# Altium schematic symbol library Erico_Ignitor.SCHLIB: 88 symbols (part 2 of 2)
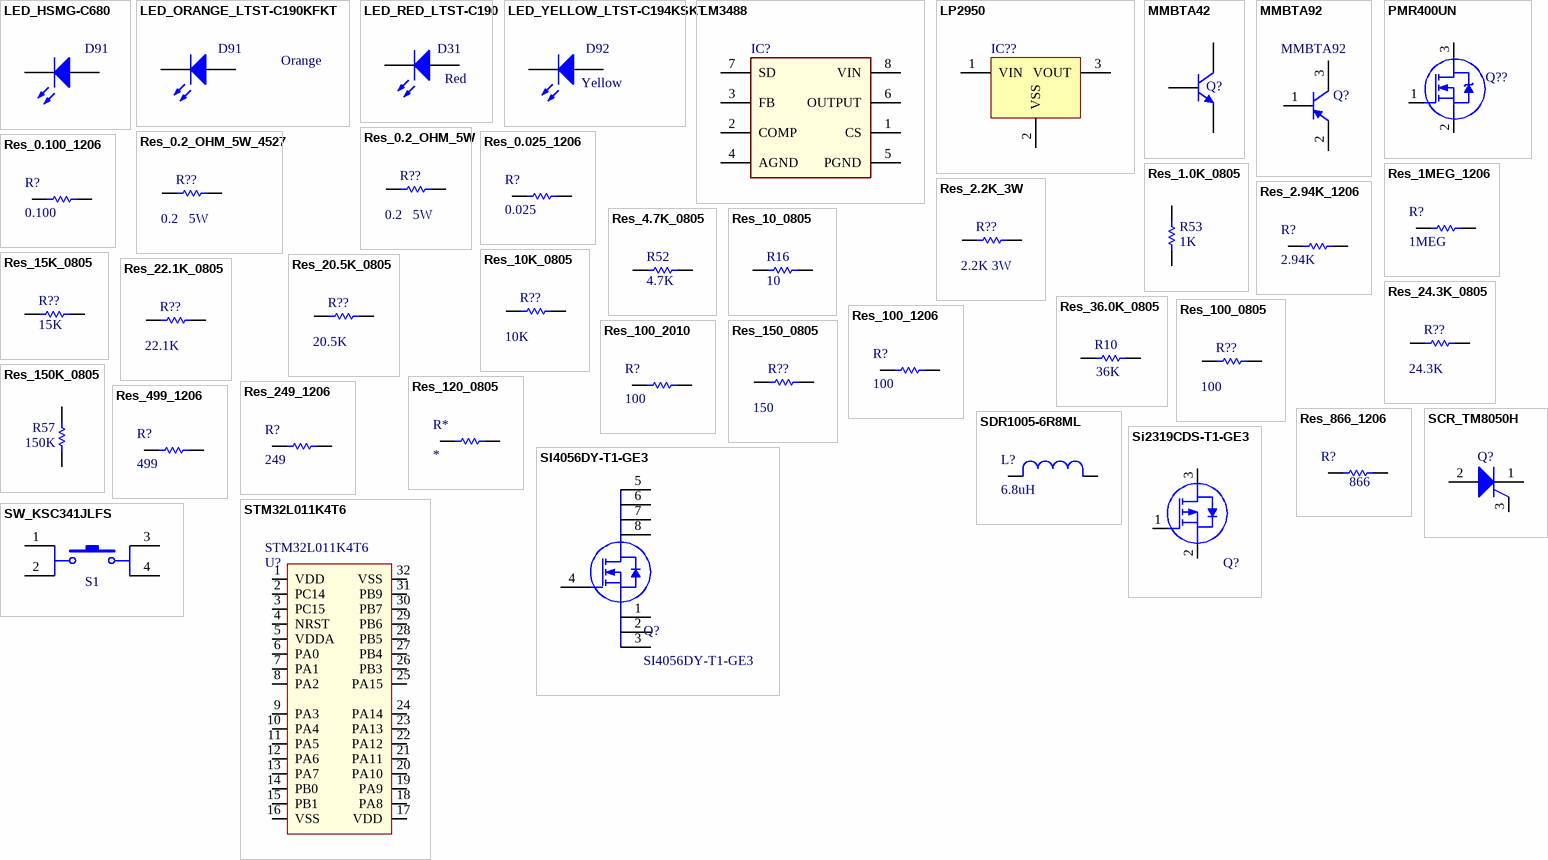
[diagram p3: symbols LED_HSMG-C680 to SW_KSC341JLFS]

## Res_0.2_OHM_5W_4527
designator R??, comment 0.2   5W
Res Metal Strip 4527 0.2 Ohm 1% 5W ±75ppm/°C Molded SMD SMD Embossed Plastic T/R; Manufacturer: Vishay Dale; Manufacturer P/N: WSR5R2000FEA; Resistance: 200mR; Voltage Rating: 1V; Supplier 1: Digi-Key; Supplier Part Number 1: WSRC-.2CT-ND; Case/Package: 4527; Number of Pins: 2; Case Code (Imperial): 4527; Contact Plating: Tin,Silver; Min Operating Temperature: -65°C; Max Operating Temperature: 275°C; Tolerance: 1%; Power Rating: 5W; Voltage Rating (DC): 1V; Package Quantity: 1; Termination: SMD/SMT; Composition: Metal Strip,Metal Element; Temperature Coefficient: 75ppm/°C; Max Power Dissipation: 5W; Features: Moisture Resistant,Automotive AEC-Q200; Length: 0.455inch; Height: 0.1inch; Width: 6.98mm; Radiation Hardening: No; REACH SVHC: No SVHC; ComponentLink1URL: http://www.vishay.com/docs/31059/wsrhigh.pdf?src-supplier=Avnet+Europe; ComponentLink1Description: http://www.vishay.com/docs/31059/wsrhigh.pdf?src-supplier=Avnet+Europe; ComponentLink2URL: http://www.vishay.com/docs/31059/wsrhigh.pdf?src-supplier=Avnet; ComponentLink2Description: http://www.vishay.com/docs/31059/wsrhigh.pdf?src-supplier=Avnet; ComponentLink3URL: http://www.vishay.com/docs/31059/wsrhigh.pdf?src-supplier=Digi-Key; ComponentLink3Description: http://www.vishay.com/docs/31059/wsrhigh.pdf?src-supplier=Digi-Key
footprint RES_WSR5 (Chip Resistor Body 455mils X 275mils)
pins: 1, 2

## Res_0.025_1206
designator R?, comment 0.025
RES 0.025 1206; Manufacturer: Stackpole Electronics; Manufacturer P/N: CSR1206FTR100; Tolerance: 1%; Resistance: 100mR; Max Power Dissipation: 500mW; Temperature Coefficient: 100ppm/°C; Supplier 1: Digi-Key; Supplier Part Number 1: CSR1206FTR100CT-ND; Mount: Surface Mount; Case/Package: 1206; Case Code (Metric): 3216; Case Code (Imperial): 1206; Contact Plating: Matte,Tin; Min Operating Temperature: -55°C; Max Operating Temperature: 155°C; Package Quantity: 1; Composition: Thick Film; Military Standard: Not; Length: 0.12inch; Height: 0.026inch; Width: 0.061inch; Depth: 1.55mm; Radiation Hardening: No; Lead Free: Lead Free; ComponentLink1URL: https://www.verical.com/server-webapp/html/getDatasheet?partID=743581; ComponentLink1Description: https://www.verical.com/server-webapp/html/getDatasheet?partID=743581; Supplier 2: Digi-Key; Supplier Part Number 2: CSR1206FK25L0CT-ND; Power Rating: 500mW
footprint RESC3216N (Chip Resistor, Body 3.2x1.6mm, IPC Nominal)
pins: 1, 2

## Res_0.100_1206
designator R?, comment 0.100
RES 0.100 1206; Manufacturer: Stackpole Electronics; Manufacturer P/N: CSR1206FTR100; Tolerance: 1%; Resistance: 100mR; Max Power Dissipation: 500mW; Temperature Coefficient: 100ppm/°C; Supplier 1: Digi-Key; Supplier Part Number 1: CSR1206FTR100CT-ND; Mount: Surface Mount; Case/Package: 1206; Case Code (Metric): 3216; Case Code (Imperial): 1206; Contact Plating: Matte,Tin; Min Operating Temperature: -55°C; Max Operating Temperature: 155°C; Package Quantity: 1; Composition: Thick Film; Military Standard: Not; Length: 0.12inch; Height: 0.026inch; Width: 0.061inch; Depth: 1.55mm; Radiation Hardening: No; Lead Free: Lead Free; ComponentLink1URL: https://www.verical.com/server-webapp/html/getDatasheet?partID=743581; ComponentLink1Description: https://www.verical.com/server-webapp/html/getDatasheet?partID=743581
footprint RESC3216N (Chip Resistor, Body 3.2x1.6mm, IPC Nominal)
pins: 1, 2

## Res_1.0K_0805
designator R53  Resistance (Ohms): 1K  (hidden comment: Res_1.0K_0805)
RES 1.0K OHM 1/8W 1% 0805; Manufacturer P/N: RC0805FR-071KL; Manufacturer: Yageo; Power (Watts): 0.125W, 1/8W; Temperature Coefficient: ±100ppm/°C; Supplier 1: Digi-Key; Supplier Part Number 1: 311-1.00KCRCT-ND; RoHS: RoHS Compliant; Composition: Thick Film; Tolerance: ±1%; Package / Case: 0805 (2012 Metric); ComponentLink1URL: http://www.yageo.com/documents/recent/PYu-RC0805_51_RoHS_L_5.pdf; ComponentLink1Description: Datasheet; Supplier 2: Digi-Key; Supplier Part Number 2: 311-1.00KCRTR-ND
footprint RESC2012N (Chip Resistor, Body 2.0x1.3mm, IPC Med Density)
pins: 1, 2

## Res_1MEG_1206
designator R?, comment 1MEG
RES 1MEG 1206; Manufacturer: Vishay; Manufacturer P/N: CRCW12061M00FKEAC; Power Rating: 250mW; Resistance: 1MR; Tolerance: 1%; Supplier 1: Digi-Key; Supplier Part Number 1: 541-4174-1-ND; Case/Package: 1206; Lead Free: Lead Free
footprint RESC3216N (Chip Resistor, Body 3.2x1.6mm, IPC Nominal)
pins: 1, 2

## Res_2.2K_3W
designator R??, comment 2.2K 3W
RES 2.2K OHM 3W 5%; Manufacturer: Panasonic; Manufacturer P/N: ERG-3SJ222; Resistance: 2.2kR; Voltage Rating: 350V; Temperature Coefficient: 300ppm/°C; Lead Diameter: 0.8mm; Supplier 1: Digi-Key; Supplier Part Number 1: P2.2KW-3BK-ND; Mount: Through Hole; Case/Package: Conformal; Contact Plating: Tin; Min Operating Temperature: -55°C; Max Operating Temperature: 200°C; Tolerance: 5%; Power Rating: 3W; Package Quantity: 100; Composition: Metal Oxide; Termination: Axial; Military Standard: Not; Max Power Dissipation: 3W; Voltage Rating (DC): 350V; Diameter: 5.5mm; Length: 15mm; REACH SVHC: No SVHC; ComponentLink1URL: http://www.farnell.com/datasheets/1897651.pdf; ComponentLink1Description: http://www.farnell.com/datasheets/1897651.pdf; ComponentLink2URL: http://uk.rs-online.com/webdocs/1020/0900766b810207b9.pdf; ComponentLink2Description: http://uk.rs-online.com/webdocs/1020/0900766b810207b9.pdf
footprint RES_ERG3 (Resistor, Axial, 3W)
pins: 1, 2

## Res_2.94K_1206
designator R?, comment 2.94K
RES 2.94K 1206; Manufacturer: Vishay; Manufacturer P/N: CRCW12062K94FKEA; Resistance: 2.94kR; Tolerance: 1%; Power Rating: 250mW; Voltage Rating: 200V; Temperature Coefficient: 100ppm/°C; Supplier 1: Digi-Key; Supplier Part Number 1: 541-2.94KFCT-ND; Case/Package: 1206; Number of Pins: 2; Weight: 0.000353oz; Case Code (Metric): 3216; Case Code (Imperial): 1206; Contact Plating: Tin; Min Operating Temperature: -55°C; Max Operating Temperature: 155°C; Package Quantity: 10; Composition: Thick Film; Termination: SMD/SMT; Military Standard: Not; Max Power Dissipation: 250mW; Voltage Rating (DC): 200V; Features: Automotive AEC-Q200; Length: 3.2mm; Height: 0.024inch; Width: 0.063inch; Depth: 1.6mm; Radiation Hardening: No; REACH SVHC: Unknown; Lead Free: Lead Free; ComponentLink1URL: http://www.vishay.com/docs/20035/dcrcwe3.pdf; ComponentLink1Description: http://www.vishay.com/docs/20035/dcrcwe3.pdf
footprint RESC3216N (Chip Resistor, Body 3.2x1.6mm, IPC Nominal)
pins: 1, 2

## Res_4.7K_0805
designator R52  Resistance (Ohms): 4.7K  (hidden comment: Res_4.7K_0805)
RES 4.7K OHM 1/8W 1% 0805; Manufacturer P/N: RC0805FR-074K7L; Manufacturer: Yageo; Power (Watts): 0.125W, 1/8W; Temperature Coefficient: ±100ppm/°C; Supplier 1: Digi-Key; Supplier Part Number 1: 311-4.70KCRCT-ND; RoHS: RoHS Compliant; Composition: Thick Film; Tolerance: ±1%; Package / Case: 0805 (2012 Metric); ComponentLink1URL: http://www.yageo.com/documents/recent/PYu-RC0805_51_RoHS_L_5.pdf; ComponentLink1Description: Datasheet; Supplier 2: Digi-Key; Supplier Part Number 2: 311-4.70KCRTR-ND
footprint RESC2012N (Chip Resistor, Body 2.0x1.3mm, IPC Med Density)
pins: 1, 2

## Res_10_0805
designator R16  Resistance (Ohms): 10  (hidden comment: Res_10_0805)
RES 10 OHM 1/8W 1% 0805; Manufacturer: Vishay Dale; Manufacturer P/N: CRCW080510R0FKEA; Power (Watts): 0.125W, 1/8W; Temperature Coefficient: ±100ppm/°C; Supplier 1: Digi-Key; Supplier Part Number 1: 541-10.0CCT-ND; RoHS: RoHS Compliant; Composition: Thick Film; Features: Automotive AEC-Q200 Qualified; Tolerance: ±1%; Package / Case: 0805 (2012 Metric); ComponentLink1URL: http://www.vishay.com/doc?20035; ComponentLink1Description: Datasheet; Supplier 2: Digi-Key; Supplier Part Number 2: 541-10.0CTR-ND
footprint RESC2012N (Chip Resistor, Body 2.0x1.3mm, IPC Med Density)
pins: 1, 2

## Res_10K_0805
designator R??, comment 10K
RES 10K OHM 1/8W 1% 0805; Manufacturer: Vishay; Manufacturer P/N: CRCW080510K0FKEA; Resistance: 10kR; Power Rating: 125mW; Voltage Rating: 150V; Temperature Coefficient: 100ppm/°C; Supplier 1: Digi-Key; Supplier Part Number 1: 541-10.0KCCT-ND; Case/Package: 0805; Weight: 0.000194oz; Case Code (Imperial): 0805; Case Code (Metric): 2012; Contact Plating: Tin; Min Operating Temperature: -55°C; Max Operating Temperature: 155°C; Tolerance: 1%; Package Quantity: 5000; Composition: Thick Film; Military Standard: Not; Termination: SMD/SMT; Voltage Rating (DC): 150V; Length: 2mm; Height: 0.45mm; Width: 1.25mm; Depth: 1.25mm; Radiation Hardening: No; REACH SVHC: Unknown; Lead Free: Lead Free; ComponentLink4URL: http://www.vishay.com/docs/20035/dcrcwe3.pdf; ComponentLink4Description: http://www.vishay.com/docs/20035/dcrcwe3.pdf
footprint RESC2012N (Chip Resistor, Body 2.0x1.3mm, IPC Med Density)
pins: 1, 2

## Res_15K_0805
designator R??  Resistance (Ohms): 15K  (hidden comment: Res_15K_0805)
RES 15K OHM 1/8W 1% 0805; Manufacturer P/N: RC0805FR-0715KL; Manufacturer: Yageo; Power (Watts): 0.125W, 1/8W; Temperature Coefficient: ±100ppm/°C; Supplier 1: Digi-Key; Supplier Part Number 1: 311-15.0KCRCT-ND; RoHS: RoHS Compliant; Composition: Thick Film; Tolerance: ±1%; Package / Case: 0805 (2012 Metric); ComponentLink1URL: http://www.yageo.com/documents/recent/PYu-RC0805_51_RoHS_L_5.pdf; ComponentLink1Description: Datasheet; Supplier 2: Digi-Key; Supplier Part Number 2: 311-15.0KCRTR-ND
footprint RESC2012N (Chip Resistor, Body 2.0x1.3mm, IPC Med Density)
pins: 1, 2

## Res_20.5K_0805
designator R??, comment 20.5K
RES 20.5K OHM 1/8W 1% 0805; Manufacturer: Vishay; Manufacturer P/N: CRCW080520K5FKEA; Resistance: 20.5kR; Power Rating: 125mW; Voltage Rating: 150V; Temperature Coefficient: 100ppm/°C; Supplier 1: Digi-Key; Supplier Part Number 1: 541-20.5KCCT-ND; Case/Package: 0805; Weight: 0.000194oz; Case Code (Metric): 2012; Case Code (Imperial): 0805; Contact Plating: Tin; Min Operating Temperature: -55°C; Max Operating Temperature: 155°C; Package Quantity: 10; Tolerance: 1%; Composition: Thick Film; Termination: SMD/SMT; Military Standard: Not; Max Power Dissipation: 125mW; Voltage Rating (DC): 150V; Features: Automotive AEC-Q200; Length: 2mm; Height: 0.45mm; Width: 0.049inch; Depth: 1.25mm; Radiation Hardening: No; REACH SVHC: Unknown; Lead Free: Lead Free; ComponentLink1URL: http://www.vishay.com/docs/20035/dcrcwe3.pdf; ComponentLink1Description: http://www.vishay.com/docs/20035/dcrcwe3.pdf
footprint RESC2012N (Chip Resistor, Body 2.0x1.3mm, IPC Med Density)
pins: 1, 2

## Res_22.1K_0805
designator R??, comment 22.1K
RES 22.1K OHM 1/8W 1% 0805; Manufacturer: Vishay; Manufacturer P/N: CRCW080522K1FKEA; Resistance: 22.1kR; Power Rating: 125mW; Voltage Rating: 150V; Temperature Coefficient: 100ppm/°C; Supplier 1: Digi-Key; Supplier Part Number 1: 541-22.1KCCT-ND; Case/Package: 0805; Weight: 0.000194oz; Case Code (Imperial): 0805; Case Code (Metric): 2012; Contact Plating: Tin; Min Operating Temperature: -55°C; Max Operating Temperature: 155°C; Tolerance: 1%; Package Quantity: 10; Termination: SMD/SMT; Composition: Thick Film; Military Standard: Not; Max Power Dissipation: 125mW; Voltage Rating (DC): 150V; Features: Automotive AEC-Q200; Length: 2mm; Height: 0.45mm; Width: 1.25mm; Depth: 1.25mm; Radiation Hardening: No; REACH SVHC: Unknown; Lead Free: Lead Free; ComponentLink2URL: http://www.vishay.com/docs/20035/dcrcwe3.pdf; ComponentLink2Description: http://www.vishay.com/docs/20035/dcrcwe3.pdf
footprint RESC2012N (Chip Resistor, Body 2.0x1.3mm, IPC Med Density)
pins: 1, 2

## Res_24.3K_0805
designator R??, comment 24.3K
RES 24.3K OHM 1/8W 1% 0805; Manufacturer: Vishay; Manufacturer P/N: CRCW080524K3FKEA; Resistance: 24.3kR; Power Rating: 125mW; Voltage Rating: 150V; Temperature Coefficient: 100ppm/°C; Supplier 1: Digi-Key; Supplier Part Number 1: 541-24.3KCCT-ND; Mount: Surface Mount; Case/Package: 0805; Number of Pins: 2; Weight: 0.000194oz; Case Code (Imperial): 0805; Case Code (Metric): 2012; Contact Plating: Tin; Min Operating Temperature: -55°C; Max Operating Temperature: 155°C; Tolerance: 1%; Package Quantity: 10; Termination: SMD/SMT; Composition: Thick Film; Military Standard: Not; Max Power Dissipation: 125mW; Voltage Rating (DC): 150V; Features: Automotive AEC-Q200; Working Voltage: 150V; Length: 2mm; Height: 0.45mm; Width: 1.25mm; Depth: 1.25mm; Radiation Hardening: No; REACH SVHC: Unknown; Lead Free: Lead Free; ComponentLink2URL: http://www.vishay.com/docs/20035/dcrcwe3.pdf; ComponentLink2Description: http://www.vishay.com/docs/20035/dcrcwe3.pdf
footprint RESC2012N (Chip Resistor, Body 2.0x1.3mm, IPC Med Density)
pins: 1, 2

## Res_36.0K_0805
designator R10  Resistance (Ohms): 36K  (hidden comment: Res_36.0K_0805)
RES 36.0K OHM 1/8W 1% 0805; Manufacturer P/N: RC0805FR-0736KL; Manufacturer: Yageo; Power (Watts): 0.125W, 1/8W; Temperature Coefficient: ±100ppm/°C; Supplier 1: Digi-Key; Supplier Part Number 1: 311-36.0KCRCT-ND; RoHS: RoHS Compliant; Composition: Thick Film; Tolerance: ±1%; Package / Case: 0805 (2012 Metric); ComponentLink1URL: http://www.yageo.com/documents/recent/PYu-RC0805_51_RoHS_L_5.pdf; ComponentLink1Description: Datasheet; Supplier 2: Digi-Key; Supplier Part Number 2: 311-36.0KCRTR-ND
footprint RESC2012N (Chip Resistor, Body 2.0x1.3mm, IPC Med Density)
pins: 1, 2

## Res_100_0805
designator R??, comment 100
RES 100 OHM 1/8W 1% 0805; Manufacturer: Vishay Semiconductors; Manufacturer P/N: CRCW0805100RFKEAC; Power Rating: 125mW; Resistance: 100R; Supplier 1: Digi-Key; Supplier Part Number 1: 541-3979-1-ND; Case/Package: 0805; Tolerance: 1%; Lead Free: Lead Free
footprint RESC2012N (Chip Resistor, Body 2.0x1.3mm, IPC Med Density)
pins: 1, 2

## Res_100_1206
designator R?, comment 100
RES 100 1206; Manufacturer: Vishay Dale; Manufacturer P/N: CRCW1206100RFKEA; Resistance: 100R; Tolerance: 1%; Power Rating: 250mW; Temperature Coefficient: 100ppm/°C; Voltage Rating: 200V; Supplier 1: Digi-Key; Supplier Part Number 1: 541-100FCT-ND; Mount: Surface Mount; Case/Package: 1206; Number of Pins: 2; Weight: 0.000353oz; Contact Plating: Tin; Case Code (Imperial): 1206; Case Code (Metric): 3216; Min Operating Temperature: -55°C; Max Operating Temperature: 155°C; Composition: Thick Film; Termination: SMD/SMT; Package Quantity: 5000; Military Standard: Not; Voltage Rating (DC): 200V; Length: 3.2mm; Height: 0.55mm; Width: 1.6mm; Depth: 1.6mm; Radiation Hardening: No; Lead Free: Lead Free; REACH SVHC: Unknown; ComponentLink1URL: http://www.vishay.com/docs/20035/dcrcwe3.pdf?src-supplier=Avnet; ComponentLink1Description: http://www.vishay.com/docs/20035/dcrcwe3.pdf?src-supplier=Avnet; ComponentLink2URL: https://www.distrelec.biz/Web/Downloads/a_/en/flD-CRCW-e3_data_en.pdf?mime=application%2Fpdf&src-supplier=Distrelec; ComponentLink2Description: https://www.distrelec.biz/Web/Downloads/a_/en/flD-CRCW-e3_data_en.pdf?mime=application%2Fpdf&src-supplier=Distrelec; ComponentLink3URL: https://www.verical.com/server-webapp/html/getDatasheet?partID=117092&src-supplier=Verical; ComponentLink3Description: https://www.verical.com/server-webapp/html/getDatasheet?partID=117092&src-supplier=Verical; ComponentLink4URL: http://www.alliedelec.com/m/d/0c934d6939ccefa68dbe0b96d821c8cf.pdf?src-supplier=Allied+Electronics; ComponentLink4Description: http://www.alliedelec.com/m/d/0c934d6939ccefa68dbe0b96d821c8cf.pdf?src-supplier=Allied+Electronics; ComponentLink5URL: http://www.farnell.com/datasheets/2111203.pdf?src-supplier=Element14; ComponentLink5Description: http://www.farnell.com/datasheets/2111203.pdf?src-supplier=Element14; ComponentLink6URL: http://www.vishay.com/docs/20035/dcrcwe3.pdf?src-supplier=Future+Electronics; ComponentLink6Description: http://www.vishay.com/docs/20035/dcrcwe3.pdf?src-supplier=Future+Electronics; ComponentLink7URL: http://www.mouser.com/ds/2/427/dcrcwe3-109170.pdf?src-supplier=Mouser; ComponentLink7Description: http://www.mouser.com/ds/2/427/dcrcwe3-109170.pdf?src-supplier=Mouser
footprint RESC3216N (Chip Resistor, Body 3.2x1.6mm, IPC Nominal)
pins: 1, 2

## Res_100_2010
designator R?, comment 100
RES 100 OHM .75W .5% 2010; Manufacturer: Vishay Dale; Manufacturer P/N: CRCW2010100RJNEF; Resistance: 100R; Tolerance: 5%; Power Rating: 750mW; Voltage Rating: 400V; Temperature Coefficient: 200ppm/°C; Supplier 1: Digi-Key; Supplier Part Number 1: 541-100WCT-ND; Mount: Surface Mount; Case/Package: 2010; Weight: 0.000899oz; Case Code (Metric): 5025; Case Code (Imperial): 2010; Contact Plating: Tin; Min Operating Temperature: -55°C; Max Operating Temperature: 155°C; Package Quantity: 1; Composition: Thick Film; Termination: SMD/SMT; Military Standard: Not; Max Power Dissipation: 750mW; Voltage Rating (DC): 400V; Features: Automotive AEC-Q200; Working Voltage: 400V; Length: 5mm; Height: 0.028inch; Width: 0.098inch; Depth: 2.5mm; Radiation Hardening: No; REACH SVHC: Unknown; Lead Free: Lead Free; ComponentLink1URL: http://www.vishay.com/docs/20035/dcrcwe3.pdf; ComponentLink1Description: http://www.vishay.com/docs/20035/dcrcwe3.pdf; ComponentLink2URL: http://www.mouser.com/ds/2/427/dcrcwe3-109170.pdf; ComponentLink2Description: http://www.mouser.com/ds/2/427/dcrcwe3-109170.pdf; ComponentLink3URL: https://www.alliedelec.com/m/d/0c934d6939ccefa68dbe0b96d821c8cf.pdf; ComponentLink3Description: https://www.alliedelec.com/m/d/0c934d6939ccefa68dbe0b96d821c8cf.pdf
footprint RESC5025N (Chip Resistor Body 5.0x2.5mm, IPC Med Density)
pins: 1, 2

## Res_120_0805
designator R*
RES 120 OHM 1/8W 1% 0805
footprint RESC2012N (Chip Resistor, Body 2.0x1.3mm, IPC Med Density)
pins: 1, 2

## Res_150_0805
designator R??, comment 150
RES 150 OHM 1/8W 1% 0805; Manufacturer: Vishay; Manufacturer P/N: CRCW0805150RFKEA; Power Rating: 125mW; Resistance: 150R; Voltage Rating: 150V; Temperature Coefficient: 100ppm/°C; Supplier 1: Digi-Key; Supplier Part Number 1: 541-150CCT-ND; Mount: Surface Mount; Case/Package: 0805; Weight: 0.000194oz; Case Code (Metric): 2012; Case Code (Imperial): 0805; Contact Plating: Tin; Min Operating Temperature: -55°C; Max Operating Temperature: 155°C; Tolerance: 1%; Package Quantity: 10; Composition: Thick Film; Termination: SMD/SMT; Max Power Dissipation: 125mW; Voltage Rating (DC): 150V; Features: Automotive AEC-Q200; Military Standard: Not; Length: 2mm; Height: 0.45mm; Width: 0.049inch; Depth: 1.25mm; Radiation Hardening: No; Lead Free: Lead Free; REACH SVHC: Unknown; ComponentLink3URL: http://www.vishay.com/docs/20035/dcrcwe3.pdf; ComponentLink3Description: http://www.vishay.com/docs/20035/dcrcwe3.pdf
footprint RESC2012N (Chip Resistor, Body 2.0x1.3mm, IPC Med Density)
pins: 1, 2

## Res_150K_0805
designator R57  Resistance (Ohms): 150K  (hidden comment: Res_150K_0805)
RES 150K OHM 1/8W 1% 0805; Manufacturer P/N: RC0805FR-07150KL; Manufacturer: Yageo; Power (Watts): 0.125W, 1/8W; Temperature Coefficient: ±100ppm/°C; Supplier 1: Digi-Key; Supplier Part Number 1: 311-150KCRCT-ND; RoHS: RoHS Compliant; Composition: Thick Film; Tolerance: ±1%; Package / Case: 0805 (2012 Metric); ComponentLink1URL: http://www.yageo.com/documents/recent/PYu-RC0805_51_RoHS_L_5.pdf; ComponentLink1Description: Datasheet; Supplier 2: Digi-Key; Supplier Part Number 2: 311-150KCRTR-ND
footprint RESC2012N (Chip Resistor, Body 2.0x1.3mm, IPC Med Density)
pins: 1, 2

## Res_249_1206
designator R?, comment 249
RES 249 1206; Manufacturer: Vishay; Manufacturer P/N: CRCW1206249RFKEA; Resistance: 249R; Tolerance: 1%; Power Rating: 250mW; Temperature Coefficient: 100ppm/°C; Voltage Rating: 200V; Supplier 1: Digi-Key; Supplier Part Number 1: 541-249FDKR-ND; Case/Package: 1206; Number of Pins: 2; Weight: 0.000353oz; Contact Plating: Tin; Case Code (Metric): 3216; Case Code (Imperial): 1206; Min Operating Temperature: -55°C; Max Operating Temperature: 155°C; Composition: Thick Film; Package Quantity: 10; Termination: SMD/SMT; Military Standard: Not; Max Power Dissipation: 250mW; Features: Automotive AEC-Q200; Working Voltage: 200V; Length: 3.2mm; Height: 0.55mm; Width: 0.063inch; Depth: 1.6mm; Radiation Hardening: No; REACH SVHC: Unknown; ComponentLink1URL: http://components.arrow.com/part/dataview/41413425S7679657N6892?src-supplier=Arrow; ComponentLink1Description: http://components.arrow.com/part/dataview/41413425S7679657N6892?src-supplier=Arrow; ComponentLink2URL: http://www.vishay.com/docs/20035/dcrcwe3.pdf?src-supplier=Avnet; ComponentLink2Description: http://www.vishay.com/docs/20035/dcrcwe3.pdf?src-supplier=Avnet; ComponentLink3URL: https://www.alliedelec.com/m/d/0c934d6939ccefa68dbe0b96d821c8cf.pdf?src-supplier=Allied+Electronics; ComponentLink3Description: https://www.alliedelec.com/m/d/0c934d6939ccefa68dbe0b96d821c8cf.pdf?src-supplier=Allied+Electronics; ComponentLink4URL: http://uk.rs-online.com/webdocs/0d98/0900766b80d98b5e.pdf?src-supplier=RSComponents; ComponentLink4Description: http://uk.rs-online.com/webdocs/0d98/0900766b80d98b5e.pdf?src-supplier=RSComponents; ComponentLink5URL: http://www.farnell.com/datasheets/2111203.pdf?src-supplier=Element14; ComponentLink5Description: http://www.farnell.com/datasheets/2111203.pdf?src-supplier=Element14; ComponentLink6URL: http://www.vishay.com/docs/20035/dcrcwe3.pdf?src-supplier=Future+Electronics; ComponentLink6Description: http://www.vishay.com/docs/20035/dcrcwe3.pdf?src-supplier=Future+Electronics; ComponentLink7URL: http://www.vishay.com/docs/20035/dcrcwe3.pdf?src-supplier=Digi-Key; ComponentLink7Description: http://www.vishay.com/docs/20035/dcrcwe3.pdf?src-supplier=Digi-Key; ComponentLink8URL: http://www.mouser.com/ds/2/427/dcrcwe3-109170.pdf?src-supplier=Mouser; ComponentLink8Description: http://www.mouser.com/ds/2/427/dcrcwe3-109170.pdf?src-supplier=Mouser; ComponentLink9URL: http://www.vishay.com/docs/20035/dcrcwe3.pdf?src-supplier=Avnet+Europe; ComponentLink9Description: http://www.vishay.com/docs/20035/dcrcwe3.pdf?src-supplier=Avnet+Europe
footprint RESC3216N (Chip Resistor, Body 3.2x1.6mm, IPC Nominal)
pins: 1, 2

## Res_499_1206
designator R?, comment 499
RES 499 1206; Manufacturer: Vishay; Manufacturer P/N: CRCW1206499RFKEA; Tolerance: 1%; Resistance: 499R; Temperature Coefficient: 100ppm/°C; Power Rating: 250mW; Voltage Rating: 200V; Supplier 1: Digi-Key; Supplier Part Number 1: 541-499FDKR-ND; Mount: Surface Mount; Case/Package: 1206; Weight: 0.000353oz; Case Code (Imperial): 1206; Case Code (Metric): 3216; Contact Plating: Tin; Min Operating Temperature: -55°C; Max Operating Temperature: 155°C; Composition: Thick Film; Package Quantity: 5000; Military Standard: Not; Termination: SMD/SMT; Voltage Rating (DC): 200V; Length: 3.2mm; Height: 0.55mm; Width: 1.6mm; Depth: 1.6mm; Radiation Hardening: No; Lead Free: Lead Free; REACH SVHC: Unknown; ComponentLink1URL: http://www.farnell.com/datasheets/2111203.pdf?src-supplier=Mouser; ComponentLink1Description: http://www.farnell.com/datasheets/2111203.pdf?src-supplier=Mouser; ComponentLink2URL: http://www.farnell.com/datasheets/2111203.pdf?src-supplier=Allied+Electronics; ComponentLink2Description: http://www.farnell.com/datasheets/2111203.pdf?src-supplier=Allied+Electronics; ComponentLink3URL: http://www.vishay.com/docs/20035/dcrcwe3.pdf?src-supplier=Avnet+Europe; ComponentLink3Description: http://www.vishay.com/docs/20035/dcrcwe3.pdf?src-supplier=Avnet+Europe; ComponentLink4URL: http://www.vishay.com/docs/20035/dcrcwe3.pdf?src-supplier=Future+Electronics; ComponentLink4Description: http://www.vishay.com/docs/20035/dcrcwe3.pdf?src-supplier=Future+Electronics; ComponentLink5URL: http://uk.rs-online.com/webdocs/0d98/0900766b80d98b5e.pdf?src-supplier=RSComponents; ComponentLink5Description: http://uk.rs-online.com/webdocs/0d98/0900766b80d98b5e.pdf?src-supplier=RSComponents; ComponentLink6URL: https://www.verical.com/server-webapp/html/getDatasheet?partID=72415&src-supplier=Verical; ComponentLink6Description: https://www.verical.com/server-webapp/html/getDatasheet?partID=72415&src-supplier=Verical
footprint RESC3216N (Chip Resistor, Body 3.2x1.6mm, IPC Nominal)
pins: 1, 2

## Res_866_1206
designator R?, comment Resistance (Ohms): 866  (hidden comment: 866R)
RES 866 OHM .5W 1% 1206; Manufacturer: Vishay Dale; Manufacturer P/N: CRCW1206866RFKEAHP; Power (Watts): 0.5W, 1/2W; Temperature Coefficient: ±100ppm/°C; Supplier 1: Digi-Key; Supplier Part Number 1: CRCW1206866RFKEAHP-ND; RoHS: RoHS Compliant; Composition: Thick Film; Features: Automotive AEC-Q200 Qualified, Pulse Withstanding; Tolerance: ±1%; Package / Case: 1206 (3216 Metric); ComponentLink1URL: http://www.vishay.com/docs/20043/crcwhpe3.pdf; ComponentLink1Description: Datasheet
footprint RESC3216N (Chip Resistor, Body 3.2x1.6mm, IPC Nominal)
pins: 1, 2

## SCR_TM8050H
designator Q?, comment SCR  (value not drawn)
SCR 800V 80A TO247-3; Manufacturer: STMicroelectronics; Manufacturer P/N: TM8050H-8W; Hold Current: 100mA; Supplier 1: Digi-Key; Supplier Part Number 1: 497-16558-5-ND; Case/Package: TO-247; Number of Pins: 3; Max Operating Temperature: 150°C; RMS Current (Irms): 80A; REACH SVHC: No SVHC
footprint TO-247-3 (TO-247-3, Vert)
pins: 1 K, 2 A, 3 G

## SDR1005-6R8ML
designator L?, comment 6.8uH
INDUCTOR POWER 6.8UH 3.6A SMD; Manufacturer: Bourns; Manufacturer P/N: SDR1005-6R8ML; Core Material: Ferrite; Tolerance: 20%; Max DC Current: 3.4A; DC Resistance (DCR): 30mR; Q Factor: 50; Self Resonant Frequency: 31MHz; Shielding: Unshielded; Saturation Current: 4.5A; Test Frequency: 1kHz; Supplier 1: Digi-Key; Supplier Part Number 1: SDR1005-6R8MLCT-ND; Mount: Surface Mount; Case/Package: 1005; Number of Pins: 2; Min Operating Temperature: -40°C; Max Operating Temperature: 125°C; Inductance: 6.8uh; Inductance Tolerance: 20%; Package Quantity: 600; Current Rating: 3.4A; Resistance: 30MR; Termination: SMD/SMT; Composition: Wirewound; RMS Current (Irms): 3.4A; DC Current: 3.4A; Military Standard: Not; Length: 12.7mm; Height: 5mm; Depth: 10.2mm; Width: 10mm; Height - Seated (Max): 0.197inch; Lead Pitch: 7.6mm; Radiation Hardening: No; REACH SVHC: No SVHC; Lead Free: Lead Free; ComponentLink1URL: http://www.bourns.com/data/global/pdfs/SDR1005.pdf; ComponentLink1Description: Datasheet
footprint IND_BOURNS_SDR1005 (INDUCTOR BOURNS POWER SDR1005)
pins: 1, 2

## Si2319CDS-T1-GE3
designator Q?  (value not drawn)
MOSFET P-CH 40V SOT-23; Manufacturer: Vishay Siliconix; FET Type: MOSFET P-Channel, Metal Oxide; FET Feature: Logic Level Gate; Current - Continuous Drain (Id) @ 25° C: 4.4A; Rds On (Max) @ Id, Vgs: 77 mOhm @ 3.1A, 10V; Vgs(th) (Max) @ Id: 2.5V @ 250µA; Gate Charge (Qg) @ Vgs: 21nC @ 10V; Input Capacitance (Ciss) @ Vds: 595pF @ 20V; Power - Max: 2.5W; Manufacturer P/N: Si2319CDS-T1-GE3; Supplier 1: Digi-Key; Supplier Part Number 1: SI2319CDS-T1-GE3CT-ND; RoHS: RoHS Compliant; Drain to Source Voltage (Vdss): 40V; Package / Case: TO-236-3, SC-59, SOT-23-3; ComponentLink1URL: http://www.vishay.com/docs/66709/si2319cd.pdf; ComponentLink1Description: Datasheet; Supplier 2: Digi-Key; Supplier Part Number 2: SI2319CDS-T1-GE3TR-ND
footprint SOT23 (SOT23, 3-Leads, Body 2.9x1.3mm, Pitch 0.95mm, Lead Span 2.5mm, IPC Med Density)
pins: 1, 2, 3

## SI4056DY-T1-GE3
designator Q?
MOSFET N-CH 100V 11.1A 8-SOIC; Manufacturer: Vishay Siliconix; Gate to Source Voltage (Vgs): 20V; Input Capacitance: 900pF; Number of Elements: 1; Max Power Dissipation: 5.7W; Rds On Max: 23mR; Power Dissipation: 2.5W; Turn-Off Delay Time: 20ns; Turn-On Delay Time: 13ns; Threshold Voltage: 1.5V; Element Configuration: Single; Supplier 1: Digi-Key; Supplier Part Number 1: SI4056DY-T1-GE3CT-ND; Manufacturer P/N: SI4056DY-T1-GE3; Mount: Surface Mount; Case/Package: SO; Number of Pins: 8; Weight: 0.01787oz; Min Operating Temperature: -55°C; Max Operating Temperature: 150°C; Continuous Drain Current (ID): 11.1A; Package Quantity: 1; Drain to Source Voltage (Vdss): 100V; Drain to Source Breakdown Voltage: 100V; Drain to Source Resistance: 23mR; Number of Channels: 1; On-State Resistance: 23MR; Length: 5mm; Height: 1.5mm; Width: 4mm; Radiation Hardening: No; REACH SVHC: No SVHC; Lead Free: Lead Free; ComponentLink1URL: http://components.arrow.com/part/dataview/0323_05934146?src-supplier=Arrow+Europe; ComponentLink1Description: http://components.arrow.com/part/dataview/0323_05934146?src-supplier=Arrow+Europe; ComponentLink2URL: http://documents.rs-components.com/techlib://itc_doclist_GB.htm?stockno=7879137&src-supplier=RSComponents; ComponentLink2Description: http://documents.rs-components.com/techlib://itc_doclist_GB.htm?stockno=7879137&src-supplier=RSComponents; ComponentLink3URL: http://www.vishay.com/docs/62662/si4056dy.pdf?src-supplier=Avnet+Europe; ComponentLink3Description: http://www.vishay.com/docs/62662/si4056dy.pdf?src-supplier=Avnet+Europe; ComponentLink4URL: http://www.vishay.com/docs/62662/si4056dy.pdf?src-supplier=Digi-Key; ComponentLink4Description: http://www.vishay.com/docs/62662/si4056dy.pdf?src-supplier=Digi-Key; ComponentLink5URL: http://www.vishay.com/docs/62662/si4056dy.pdf?src-supplier=Future+Electronics; ComponentLink5Description: http://www.vishay.com/docs/62662/si4056dy.pdf?src-supplier=Future+Electronics; ComponentLink6URL: http://www.farnell.com/datasheets/2045882.pdf?src-supplier=Element14; ComponentLink6Description: http://www.farnell.com/datasheets/2045882.pdf?src-supplier=Element14; ComponentLink7URL: http://www.mouser.com/ds/2/427/si4056dy-104010.pdf?src-supplier=Mouser; ComponentLink7Description: http://www.mouser.com/ds/2/427/si4056dy-104010.pdf?src-supplier=Mouser
footprint SOIC127P600X175-8N (SOIC, 8-Leads, Body 4.9x3.9mm, Pitch 1.27mm, IPC Medium Density)
pins: 1 S, 2 S, 3 S, 4 G, 5 D, 6 D, 7 D, 8 D

## STM32L011K4T6
designator U?  Manufacturer P/N: STM32L011K4T6  (hidden comment: *)
16/32-BITS MICROS STM32L011; Manufacturer: STMicroelectronics; Supplier 1: Digi-Key; Supplier Part Number 1: 497-17480-ND
footprint QFP80P900X900X160-32
pins: 1 VDD (power), 2 PC14, 3 PC15, 4 NRST, 5 VDDA (power), 6 PA0, 7 PA1, 8 PA2, 9 PA3, 10 PA4, 11 PA5, 12 PA6, 13 PA7, 14 PB0, 15 PB1, 16 VSS (power), 17 VDD (power), 18 PA8, 19 PA9, 20 PA10, 21 PA11, 22 PA12, 23 PA13, 24 PA14, 25 PA15, 26 PB3, 27 PB4, 28 PB5, 29 PB6, 30 PB7, 31 PB9, 32 VSS (power)

## SW_KSC341JLFS
designator S1, comment KSC341JLFS  (value not drawn)
SWITCH TACTILE SPST-NO 0.05A 32V; Manufacturer: ITT C&K; Mechanical Life: 300000Cycles; Operating Force: 3N; Throw Configuration: SPST; Max Current Rating: 50mA; Power Rating: 1W; Illumination Type: Illuminated,Non-Illuminated; Switch Travel: 0.2mm; Switch Function: Off-Mom; Actuator Type: Standard; Actuator Length: 0.87mm; Ratings: Dust Tight,IP67,Waterproof; Supplier 1: Digi-Key; Manufacturer Part Number: KSC341JLFS; Stock 1: 19672; Pricing 1: 1=0.52, 10=0.499, 25=0.4896, 50=0.4712, 100=0.4065, 250=0.36956, 500=0.3511, 1000=0.27718 (USD); Mount: Sealed,Surface Mount; Contact Material: Silver; Contact Plating: Silver; Min Operating Temperature: -40°C; Max Operating Temperature: 85°C; Max Voltage Rating (DC): 32V; Termination: J-Bend; Packaging: Tape and Reel; Orientation: Straight; Contact Current Rating: 50mA; Current Rating: 50mA; Package Quantity: 1; Voltage Rating (DC): 32V; Voltage Rating: 32V; Length: 6.2mm; Height: 3.5mm; Width: 6.2mm; Depth: 6.8mm; Radiation Hardening: No; REACH SVHC: No SVHC; Lead Free: Lead Free; ComponentLink1URL: http://uk.rs-online.com/webdocs/1403/0900766b814037a6.pdf?src-supplier=RSComponents; ComponentLink1Description: http://uk.rs-online.com/webdocs/1403/0900766b814037a6.pdf?src-supplier=RSComponents; ComponentLink2URL: http://www.ck-components.com/index.php?module=media&action=Display&cmpref=14422&lang=en&width=&height=&format=&alt=&src-supplier=Digi-Key; ComponentLink2Description: http://www.ck-components.com/index.php?module=media&action=Display&cmpref=14422&lang=en&width=&height=&format=&alt=&src-supplier=Digi-Key; ComponentLink3URL: https://www.verical.com/server-webapp/html/getDatasheet?partID=381130&src-supplier=Verical; ComponentLink3Description: https://www.verical.com/server-webapp/html/getDatasheet?partID=381130&src-supplier=Verical; ComponentLink4URL: http://www.farnell.com/datasheets/1707722.pdf?src-supplier=Element14; ComponentLink4Description: http://www.farnell.com/datasheets/1707722.pdf?src-supplier=Element14; ComponentLink5URL: https://www.ckswitches.com/media/1459/ksc.pdf?src-supplier=Digi-Key; ComponentLink5Description: https://www.ckswitches.com/media/1459/ksc.pdf?src-supplier=Digi-Key; ComponentLink6URL: https://www.verical.com/server-webapp/html/getDatasheet?partID=89701&src-supplier=Verical; ComponentLink6Description: https://www.verical.com/server-webapp/html/getDatasheet?partID=89701&src-supplier=Verical; ComponentLink7URL: http://www.ck-components.com/14422/ksc_31aug10.pdf/?src-supplier=Avnet; ComponentLink7Description: http://www.ck-components.com/14422/ksc_31aug10.pdf/?src-supplier=Avnet; Supplier Part Number 1: 401-1770-6-ND
footprint SW_KSC3-41-J-LFS
pins: 1, 2, 3, 4

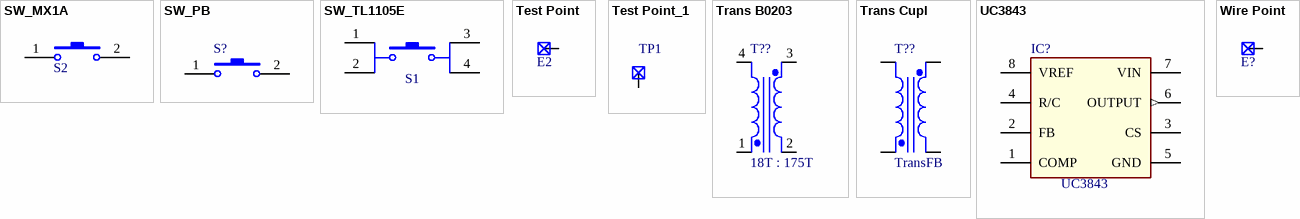
[diagram p2: symbols SW_MX1A to Wire Point]

## SW_MX1A
designator S2  (value not drawn)
SWITCH PUSH BUTTON; Manufacturer: Cherry; Manufacturer P/N: MX1A-21NW; Mechanical Life: 50000000Cycles; Throw Configuration: SPST; Voltage Rating (AC): 12V; Max Current Rating: 10mA; Contact Resistance: 200mR; Operating Force: 0.58N; Switch Function: Off-Mom; Row Spacing: 2.54mm; Actuator Length: 3.6mm; Supplier 1: Digi-Key; Supplier Part Number 1: MX1A21NW-ND; Mount: Through Hole; Contact Plating: Gold; Contact Material: Gold,Silver; Number of Terminals: 2; Housing Material: Thermoplastic; Min Operating Temperature: -10°C; Max Operating Temperature: 70°C; Package Quantity: 1000; Voltage Rating (DC): 12V; Current Rating: 10mA; Max Voltage Rating (AC): 12V; Max Voltage Rating (DC): 12V; Termination: PC Pin; Electrical Life: 50000000Cycles; Orientation: Straight; Contact Current Rating: 10mA; Terminal Pitch: 6.35mm; Lead Free: Lead Free
footprint SW_CHERRY_MX1A-21NW (Key Switch, TACT, 15.6mm x15.6mm)
pins: 1, 2

## SW_PB
designator S?  (value not drawn)
SWITCH PUSH BUTTON; Manufacturer: Herga; Manufacturer P/N: 6761-0050; Value: 25mbar
footprint SW_6761-0050 (SWITCH PRESSURE/VACUUM 6761)
pins: 1, 2

## SW_TL1105E
designator S1, comment TL1105E  (value not drawn)
Switch, Push button SPST-NO; Manufacturer: E-Switch; Manufacturer P/N: TL1105EF250Q7.3RED; Mechanical Life: 100000Cycles; Actuator Material: Nylon,Polyamide; Operating Force: 250gf; Illumination Type: Non-Illuminated; Throw Configuration: SPST; Contact Current Rating: 50mA; Switch Travel: 0.25mm; Switch Function: Off-Mom; Actuator Type: Standard; Supplier 1: Digi-Key; Supplier Part Number 1: EG1832-ND; Mount: Through Hole; Contact Plating: Silver; Min Operating Temperature: -20°C; Max Operating Temperature: 70°C; Package Quantity: 1000; Termination: PC Pin; Orientation: Vertical; Length: 6mm; Width: 6mm; Lead Free: Lead Free; ComponentLink1URL: https://www.e-switch.com/system/asset/product_line/data_sheet/144/TL1105.pdf; ComponentLink1Description: https://www.e-switch.com/system/asset/product_line/data_sheet/144/TL1105.pdf
footprint SW_E-SWITCH_TL1105F (Switch, TACT, 6mm x6mm)
pins: 1, 2, 3, 4

## Test Point
designator E2, comment Testpoint  (value not drawn)  (no BOM)
Value: Test Point
footprint Test_point (Model Description)
footprint TEST_POINT_TH (thru-hole tespoint for .025" square post)
pins: 1 Test

## Test Point_1
designator TP1, comment Testpoint  (value not drawn)  (no BOM)
Value: Test Point
footprint Test_point (Model Description)
footprint TEST_POINT_TH (thru-hole tespoint for .025" square post)
pins: 1 Test

## Trans B0203
designator T??, comment 18T : 175T
Transformer; Manufacturer: Coilcraft; Manufacturer P/N: B0203B
footprint XFMR_Coilcraft_B0203-B (Flyback Toroid Transformer, 4 Pin)
pins: 1 Pri-, 2 Sec-, 3 Sec+, 4 Pri+

## Trans Cupl
designator T??, comment TransFB
Transformer; Published: 8-Jun-2000; LatestRevisionDate: 17-Jul-2002; LatestRevisionNote: Re-released for DXP Platform.; PackageReference: TRF_4; Publisher: Altium Limited; PackageDescription: Transformer; 4 Leads
pins: 1 Pri+, 2 Pri-, 3 Sec+, 4 Sec-

## UC3843
designator IC?
IC REG CTRLR BST FLYBK PWM; Manufacturer: Texas Instruments; Manufacturer P/N: LM3478QMM/NOPB; PWM Type: Current Mode; Frequency - Max: 1MHz; Voltage - Supply: 2.97 V ~ 40 V; Supplier 1: Digi-Key; Supplier Part Number 1: LM3478QMM/NOPBCT-ND; RoHS: RoHS Compliant; Package / Case: 8-TSSOP, 8-MSOP (0.118", 3.00mm Width); ComponentLink1URL: http://www.ti.com/lit/ds/symlink/lm3478.pdf; ComponentLink1Description: Datasheet; Supplier 2: Digi-Key; Supplier Part Number 2: LM3478QMM/NOPBTR-ND; Value: UC3843
pins: 1 COMP, 2 FB, 3 CS, 4 R/C, 5 GND, 6 OUTPUT (out), 7 VIN, 8 VREF

## Wire Point
designator E?, comment Wirepoint  (value not drawn)  (no BOM)
Value: Wire Point
footprint EPOINT_28AWG (thru-hole wirepoint for 18AWG wire)
pins: 1 Test